# Altium schematic symbol library SNESConnIDC.SchLib: 2 symbols
Pins are listed as number, name and electrical type; pins without a type are passive.

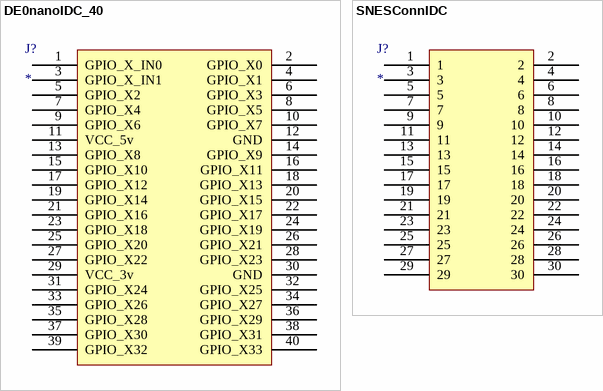
[diagram p0: symbols DE0nanoIDC_40 to SNESConnIDC]

## DE0nanoIDC_40
designator J?
footprint SNESConnIDC_40
pins: 1 GPIO_X_IN0, 2 GPIO_X0, 3 GPIO_X_IN1, 4 GPIO_X1, 5 GPIO_X2, 6 GPIO_X3, 7 GPIO_X4, 8 GPIO_X5, 9 GPIO_X6, 10 GPIO_X7, 11 VCC_5v, 12 GND, 13 GPIO_X8, 14 GPIO_X9, 15 GPIO_X10, 16 GPIO_X11, 17 GPIO_X12, 18 GPIO_X13, 19 GPIO_X14, 20 GPIO_X15, 21 GPIO_X16, 22 GPIO_X17, 23 GPIO_X18, 24 GPIO_X19, 25 GPIO_X20, 26 GPIO_X21, 27 GPIO_X22, 28 GPIO_X23, 29 VCC_3v, 30 GND, 31 GPIO_X24, 32 GPIO_X25, 33 GPIO_X26, 34 GPIO_X27, 35 GPIO_X28, 36 GPIO_X29, 37 GPIO_X30, 38 GPIO_X31, 39 GPIO_X32, 40 GPIO_X33

## SNESConnIDC
designator J?
footprint SNESConnIDC_30
pins: 1, 2, 3, 4, 5, 6, 7, 8, 9, 10, 11, 12, 13, 14, 15, 16, 17, 18, 19, 20, 21, 22, 23, 24, 25, 26, 27, 28, 29, 30